# EAGLE library part RESISTOR-ARRAY-4 (library BaseApp)
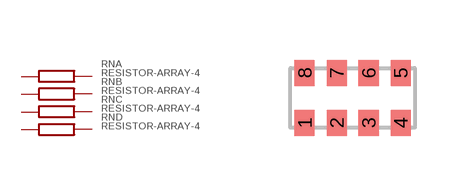
[diagram p19: symbol with the pads of RESISTOR-ARRAY-4-0603; footprint RESISTOR-ARRAY-4-0603]

Designator prefix RN; gates A=R-ARRAY-4 B=R-ARRAY-4 C=R-ARRAY-4 D=R-ARRAY-4

## RESISTOR-ARRAY-4  [RESISTOR-ARRAY-4-0603]
1  A:1  pas
2  B:1  pas
3  C:1  pas
4  D:1  pas
5  D:2  pas
6  C:2  pas
7  B:2  pas
8  A:2  pas

## Footprint RESISTOR-ARRAY-4-0603 (pad centres in mm)
smd 0.5 x 0.65: 1 -1.2,-0.625; 2 -0.4,-0.625; 3 0.4,-0.625; 4 1.2,-0.625; 5 1.2,0.625; 6 0.4,0.625; 7 -0.4,0.625; 8 -1.2,0.625